# Altium footprint library adafruit.PCBLIB: 643 footprints (part 34 of 41)
Each footprint in its own frame and in the unit in brackets; x right, y up, seen from the top. Pads: shape width x height; smd on the part's side, far side on the other; paste and mask are expansions set on the pad; w line width, h text height; cw(c..) or ccw(c..) is an arc to the next point about the centre after c.
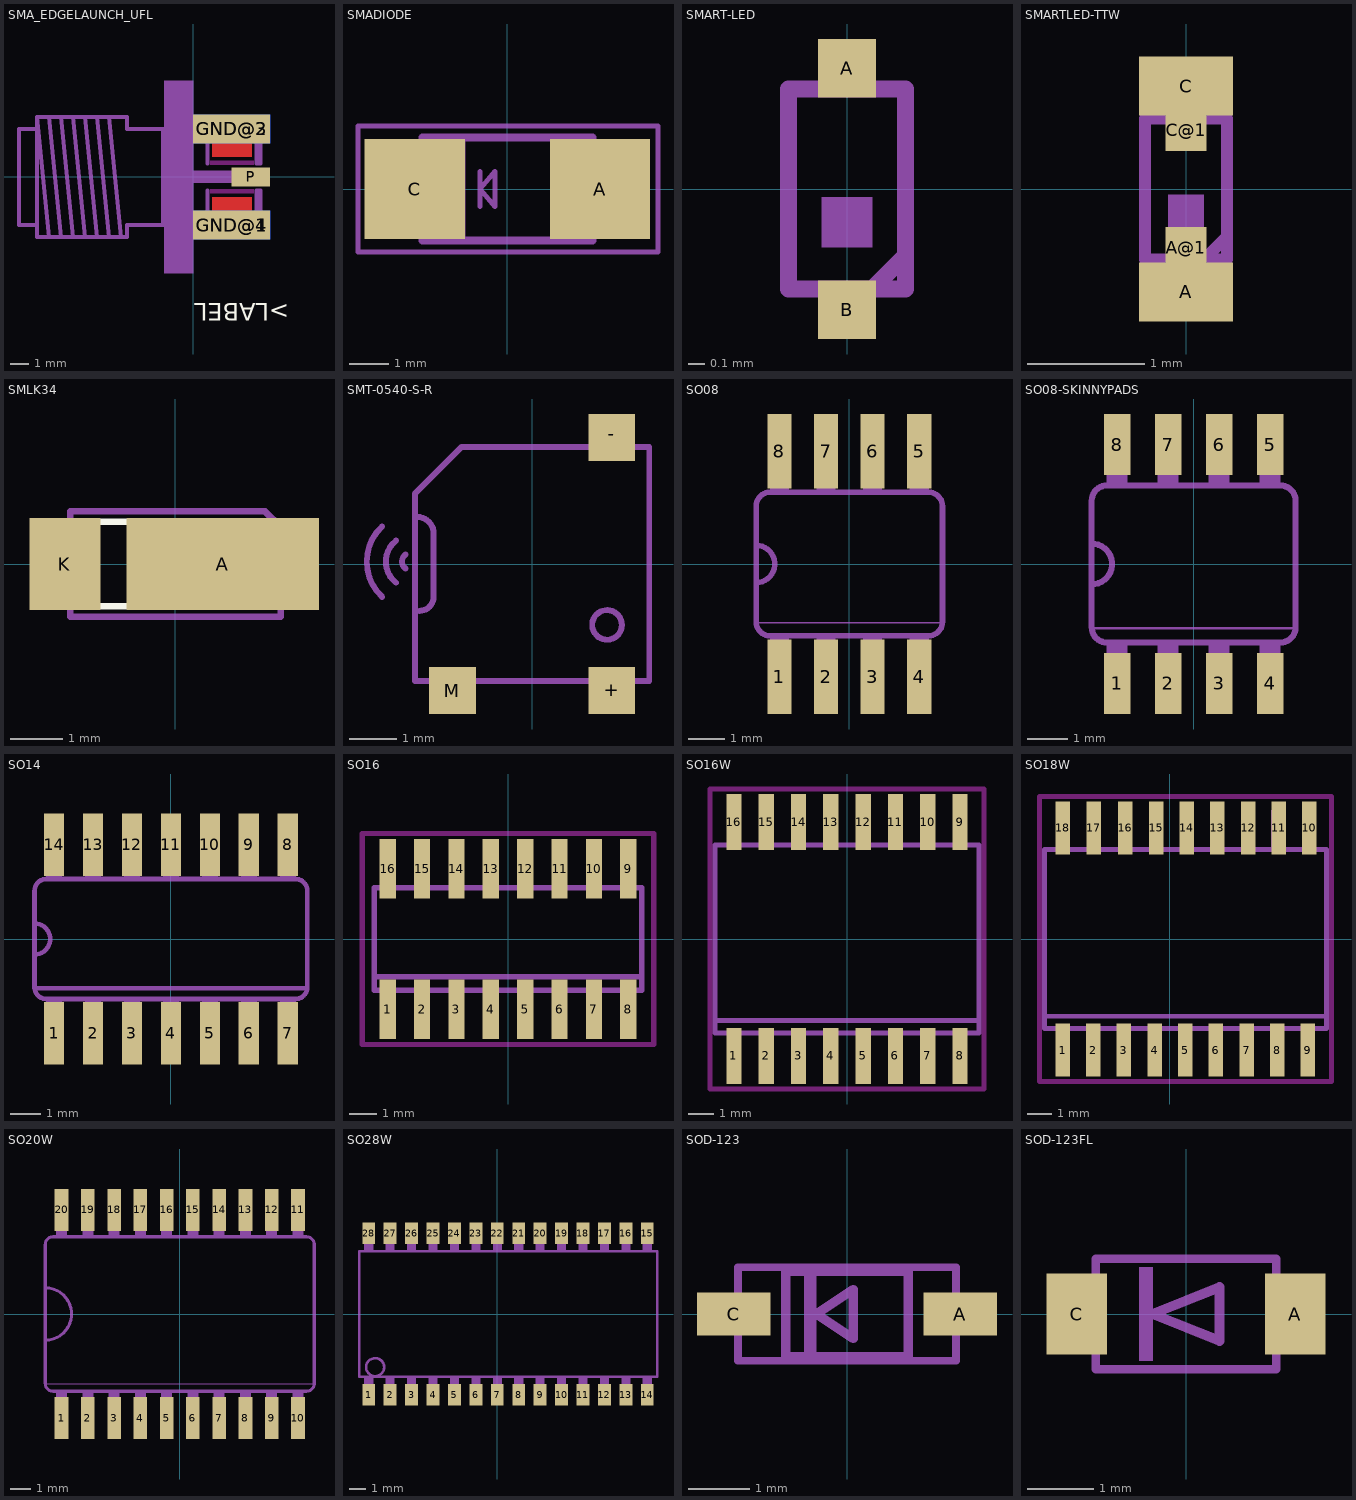
[diagram p33: the footprints below, top view; thin cyan lines are the x and y axes]

## SMA_EDGELAUNCH_UFL [mil]
pads (5):
  rect 160x60 smd paste+0: GND@1(80,-100) GND@2(80,100)
  rect 160x60 smd far side paste+0: GND@3(80,100) GND@4(80,-100)
  rect 80x40 smd paste+0: P(120,0)
Top:
  region: 40,41.94 40,125 122,125 122,41.94
  region: 122,-41.94 122,-125 40,-125 40,-41.94
Top keep-out:
  region: 36,-34 36,-25 126,-25 126,-34
  region: 36,25 36,34 126,34 126,25
Top Overlay:
  text ">LABEL" at 200,-250 h62
Top Paste:
  region: 126,-19 126,19 156,19 156,-19
  region: 39,38.94 39,70.94 123,70.94 123,38.94
  region: 123,-38.94 123,-70.94 39,-70.94 39,-38.94
Top Solder:
  region: 35,36.94 35,72.94 127,72.94 127,36.94
  region: 127,-36.94 127,-72.94 35,-72.94 35,-36.94
tDocu:
  region: 0,-12.5 0,12.5 125,12.5 125,-12.5
  region: -60,120 150,120 150,80 0,80 0,-80 150,-80 150,-120 -60,-120
  region: -60,200 0,200 0,-200 -60,-200
  lines w8: -150,-125 -175,125 ; 29.82,-27.56 29.82,-82.68 132.18,-82.68 ; 29.82,27.56 29.82,82.68 132.18,82.68 ; 136.12,-78.74 136.12,-27.56 ; 136.12,27.56 136.12,78.74 ; -325,-100 -325,-125 -300,-125 ; -325,-100 -362.5,-100 -362.5,100 -325,100 ; -325,-100 -325,100 ; -325,100 -325,125 ; -325,125 -300,125 ; -325,125 -300,-125 ; -300,-125 -275,-125 ; -300,125 -275,125 ; -300,125 -275,-125 ; -275,-125 -250,-125 ; -275,125 -250,125 ; -275,125 -250,-125 ; -250,-125 -225,-125 ; -250,125 -225,125 ; -250,125 -225,-125 ; -225,-125 -200,-125 ; -225,125 -200,125 ; -225,125 -200,-125 ; -200,-125 -175,-125 ; -200,125 -175,125 ; -200,125 -175,-125 ; -175,-125 -137.5,-125 -137.5,-100 -62.5,-100 -62.5,100 -137.5,100 -137.5,125 -175,125 ; 132.18,-82.68 132.18,-27.56 140.06,-27.56 140.06,-82.68 132.18,-82.68 ; 132.18,82.68 132.18,27.56 140.06,27.56 140.06,82.68 132.18,82.68

## SMADIODE [mil]
pads (2):
  rect 100x100 smd: A(92.5,0) C(-92.5,0)
tDocu:
  region: -111.22,-43.31 -111.22,43.31 -85.63,43.31 -85.63,-43.31
  region: 111.22,43.31 111.22,-43.31 85.63,-43.31 85.63,43.31
  region: -68.9,-48.23 -68.9,48.23 -42.32,48.23 -42.32,-48.23
  lines w8: -84.65,-51.18 84.65,-51.18 84.65,51.18 -84.65,51.18 -84.65,-51.18
tPlace:
  lines w5: -149.17,-54.88 -149.17,-45.12 ; -27.5,-17.5 -27.5,17.5 ; 150.24,52.62 150.24,54.88 ; -149.17,-45.12 -149.17,62.99 150.24,62.99 150.24,54.88 ; -149.17,-45.12 -149.17,-62.99 150.24,-62.99 150.24,54.88 ; -27.5,0 -12.5,17.5 -12.5,-17.5 -27.5,0

## SMART-LED [mm]
pads (2):
  rect 0.35x0.35 smd: A(0,0.725) B(0,-0.725)
tDocu:
  region: -0.15,0.6 -0.15,0.85 0.15,0.85 0.15,0.6
  region: -0.15,-0.85 -0.15,-0.6 0.15,-0.6 0.15,-0.85
  lines w0.102: -0.35,-0.6 0.35,-0.6 ; -0.35,0.6 0.35,0.6 ; 0.15,-0.6 0.35,-0.4
tPlace:
  region: -0.15,-0.35 -0.15,-0.05 0.15,-0.05 0.15,-0.35
  lines w0.102: -0.35,-0.6 -0.35,0.6 ; 0.35,-0.6 0.35,0.6

## SMARTLED-TTW [mm]
pads (4):
  rect 0.8x0.5 smd paste+0 mask+0: A(0,-0.875) C(0,0.875)
  rect 0.35x0.35 smd paste+0 mask+0: A@1(0,-0.5) C@1(0,0.5)
Top Paste:
  region: -0.225,0.3 -0.225,0.975 0.225,0.975 0.225,0.3
  region: 0.225,-0.3 0.225,-0.975 -0.225,-0.975 -0.225,-0.3
Top Solder:
  region: -0.175,0.325 -0.175,0.7 0.175,0.7 0.175,0.325
  region: 0.175,-0.325 0.175,-0.7 -0.175,-0.7 -0.175,-0.325
tDocu:
  region: -0.15,0.6 -0.15,0.85 0.15,0.85 0.15,0.6
  region: -0.15,-0.85 -0.15,-0.6 0.15,-0.6 0.15,-0.85
  lines w0.102: -0.35,-0.6 0.35,-0.6 ; -0.35,0.6 0.35,0.6 ; 0.15,-0.6 0.35,-0.4
tPlace:
  region: -0.15,-0.35 -0.15,-0.05 0.15,-0.05 0.15,-0.35
  lines w0.102: -0.35,-0.6 -0.35,0.6 ; 0.35,-0.6 0.35,0.6

## SMLK34 [mil]
pads (2):
  rect 143.7x68.5 smd: A(35.43,0)
  rect 53.15x68.5 smd: K(-82.68,0)
Top Overlay:
  lines w5: -70.87,-31.5 -70.87,31.5 62.99,31.5 70.87,23.62 70.87,-31.5 -70.87,-31.5
tPlace:
  lines w5: -78.74,-39.37 78.74,-39.37 78.74,27.56 66.93,39.37 -78.74,39.37 -78.74,-39.37
  text "A" at 68.11,-85.75 h34
  text "K" at -115.67,-85.75 h34

## SMT-0540-S-R [mm]
pads (3):
  rect 1x1 smd: +(1.7,-2.7) -(1.7,2.7) M(-1.7,-2.7)
tPlace:
  circle w0.127: c1.6,-1.3 r0.316
  lines w0.127: -3.2,-0.7 cw(c-2.5,0.05) -3.2,0.8 ; -2.9,-0.4 cw(c-2.55,0.05) -2.9,0.5 ; -2.7,-0.1 cw(c-2.588,0.05) -2.7,0.2 ; -2.4,-1 ccw(c-2.4,-0.7) -2.1,-0.7 -2.1,0.7 ccw(c-2.45,0.65) -2.5,1 ; -2.5,1 -2.5,-2.5 2.5,-2.5 2.5,2.5 -1.5,2.5 -2.5,1.5 -2.5,1

## SO08 [mil]
pads (8):
  rect 26x80 smd: 1(-75,-121) 2(-25,-121) 3(25,-121) 4(75,-121) 5(75,121) 6(25,121) 7(-25,121) 8(-75,121)
tDocu:
  region: 65,77 65,122 85,122 85,77
  region: -85,-122 -85,-77 -65,-77 -65,-122
  region: -35,-122 -35,-77 -15,-77 -15,-122
  region: 15,-121 15,-76 35,-76 35,-121
  region: 65,-122 65,-77 85,-77 85,-122
  region: 15,77 15,122 35,122 35,77
  region: -35,77 -35,122 -15,122 -15,77
  region: -85,77 -85,122 -65,122 -65,77
tPlace:
  lines w2: -100,-63 100,-63
  lines w6: -100,-20 ccw(c-100,0) -100,20 ; -100,-62 ccw(c-85,-62) -85,-77 85,-77 ccw(c85,-62) 100,-62 100,62 ccw(c85,62) 85,77 -85,77 ccw(c-85,62) -100,62 -100,-62

## SO08-SKINNYPADS [mil]
pads (8):
  rect 26x60 smd: 1(-75,-117.06) 2(-25,-117.06) 3(25,-117.06) 4(75,-117.06) 5(75,117.06) 6(25,117.06) 7(-25,117.06) 8(-75,117.06)
tDocu:
  region: 65,77 65,122 85,122 85,77
  region: -85,-122 -85,-77 -65,-77 -65,-122
  region: -35,-122 -35,-77 -15,-77 -15,-122
  region: 15,-121 15,-76 35,-76 35,-121
  region: 65,-122 65,-77 85,-77 85,-122
  region: 15,77 15,122 35,122 35,77
  region: -35,77 -35,122 -15,122 -15,77
  region: -85,77 -85,122 -65,122 -65,77
tPlace:
  lines w2: -100,-63 100,-63
  lines w6: -100,-20 ccw(c-100,0) -100,20 ; -100,-62 ccw(c-85,-62) -85,-77 85,-77 ccw(c85,-62) 100,-62 100,62 ccw(c85,62) 85,77 -85,77 ccw(c-85,62) -100,62 -100,-62

## SO14 [mil]
pads (14):
  rect 26x80 smd: 1(-150,-121) 2(-100,-121) 3(-50,-121) 4(0,-121) 5(50,-121) 6(100,-121) 7(150,-121) 8(150,121) 9(100,121) 10(50,121) 11(0,121) 12(-50,121) 13(-100,121) 14(-150,121)
tDocu:
  region: -10,77 -10,122 10,122 10,77
  region: -160,-122 -160,-77 -140,-77 -140,-122
  region: -110,-122 -110,-77 -90,-77 -90,-122
  region: -60,-121 -60,-76 -40,-76 -40,-121
  region: -10,-122 -10,-77 10,-77 10,-122
  region: -60,77 -60,122 -40,122 -40,77
  region: -110,77 -110,122 -90,122 -90,77
  region: -160,77 -160,122 -140,122 -140,77
  region: 40,77 40,122 60,122 60,77
  region: 90,77 90,122 110,122 110,77
  region: 140,77 140,122 160,122 160,77
  region: 40,-122 40,-77 60,-77 60,-122
  region: 90,-122 90,-77 110,-77 110,-122
  region: 140,-122 140,-77 160,-77 160,-122
tPlace:
  lines w6: -175,-63 175,-63 ; -175,-20 -175,20 ; -175,-20 -175,-62 ccw(c-160,-62) -160,-77 160,-77 ccw(c160,-62) 175,-62 175,62 ccw(c160,62) 160,77 -160,77 ccw(c-160,62) -175,62 -175,20 ; -175,-20 ccw(c-175,0) -175,20

## SO16 [mil]
pads (16):
  rect 23.62x86.61 smd: 1(-175,-102.36) 2(-125,-102.36) 3(-75,-102.36) 4(-25,-102.36) 5(25,-102.36) 6(75,-102.36) 7(125,-102.36) 8(175,-102.36) 9(175,102.36) 10(125,102.36) 11(75,102.36) 12(25,102.36) 13(-25,102.36) 14(-75,102.36) 15(-125,102.36) 16(-175,102.36)
Top keep-out:
  lines w7.87: -212.4,-153.54 212.4,-153.54 212.4,153.54 -212.4,153.54 -212.4,-153.54
tDocu:
  region: -184.65,-122.05 -184.65,-78.74 -165.35,-78.74 -165.35,-122.05
  region: -134.65,-122.05 -134.65,-78.74 -115.35,-78.74 -115.35,-122.05
  region: -84.65,-122.05 -84.65,-78.74 -65.35,-78.74 -65.35,-122.05
  region: -34.65,-122.05 -34.65,-78.74 -15.35,-78.74 -15.35,-122.05
  region: 65.35,78.74 65.35,122.05 84.65,122.05 84.65,78.74
  region: 15.35,78.74 15.35,122.05 34.65,122.05 34.65,78.74
  region: -34.65,78.74 -34.65,122.05 -15.35,122.05 -15.35,78.74
  region: -84.65,78.74 -84.65,122.05 -65.35,122.05 -65.35,78.74
  region: 15.35,-122.05 15.35,-78.74 34.65,-78.74 34.65,-122.05
  region: 65.35,-122.05 65.35,-78.74 84.65,-78.74 84.65,-122.05
  region: 115.35,-122.05 115.35,-78.74 134.65,-78.74 134.65,-122.05
  region: 165.35,-122.05 165.35,-78.74 184.65,-78.74 184.65,-122.05
  region: 165.35,78.74 165.35,122.05 184.65,122.05 184.65,78.74
  region: 115.35,78.74 115.35,122.05 134.65,122.05 134.65,78.74
  region: -134.65,78.74 -134.65,122.05 -115.35,122.05 -115.35,78.74
  region: -184.65,78.74 -184.65,122.05 -165.35,122.05 -165.35,78.74
  lines w8: -194.49,-55.12 -194.49,-74.8 194.49,-74.8 194.49,-55.12 ; -194.49,-55.12 -194.49,74.8 194.49,74.8 194.49,-55.12 ; -194.49,-55.12 194.49,-55.12

## SO16W [mil]
pads (16):
  rect 23.62x86.61 smd: 1(-175,-181.1) 2(-125,-181.1) 3(-75,-181.1) 4(-25,-181.1) 5(25,-181.1) 6(75,-181.1) 7(125,-181.1) 8(175,-181.1) 9(175,181.1) 10(125,181.1) 11(75,181.1) 12(25,181.1) 13(-25,181.1) 14(-75,181.1) 15(-125,181.1) 16(-175,181.1)
Top keep-out:
  lines w7.87: -212.4,-232.28 212.4,-232.28 212.4,232.28 -212.4,232.28 -212.4,-232.28
tDocu:
  region: -184.65,-209.45 -184.65,-149.61 -165.35,-149.61 -165.35,-209.45
  region: -134.65,-209.45 -134.65,-149.61 -115.35,-149.61 -115.35,-209.45
  region: -84.65,-209.45 -84.65,-149.61 -65.35,-149.61 -65.35,-209.45
  region: -34.65,-209.45 -34.65,-149.61 -15.35,-149.61 -15.35,-209.45
  region: 15.35,-209.45 15.35,-149.61 34.65,-149.61 34.65,-209.45
  region: 65.35,-209.45 65.35,-149.61 84.65,-149.61 84.65,-209.45
  region: 115.35,-209.45 115.35,-149.61 134.65,-149.61 134.65,-209.45
  region: 165.35,-209.45 165.35,-149.61 184.65,-149.61 184.65,-209.45
  region: 165.35,149.61 165.35,209.45 184.65,209.45 184.65,149.61
  region: 115.35,149.61 115.35,209.45 134.65,209.45 134.65,149.61
  region: 65.35,149.61 65.35,209.45 84.65,209.45 84.65,149.61
  region: 15.35,149.61 15.35,209.45 34.65,209.45 34.65,149.61
  region: -34.65,149.61 -34.65,209.45 -15.35,209.45 -15.35,149.61
  region: -84.65,149.61 -84.65,209.45 -65.35,209.45 -65.35,149.61
  region: -134.65,149.61 -134.65,209.45 -115.35,209.45 -115.35,149.61
  region: -184.65,149.61 -184.65,209.45 -165.35,209.45 -165.35,149.61
  lines w8: -204.33,-125.98 -204.33,-145.67 204.33,-145.67 204.33,-125.98 ; -204.33,-125.98 -204.33,145.67 204.33,145.67 204.33,-125.98 ; -204.33,-125.98 204.33,-125.98

## SO18W [mil]
pads (18):
  rect 23.62x86.61 smd: 1(-175,-181.1) 2(-125,-181.1) 3(-75,-181.1) 4(-25,-181.1) 5(25,-181.1) 6(75,-181.1) 7(125,-181.1) 8(175,-181.1) 9(225,-181.1) 10(227.36,181.1) 11(177.36,181.1) 12(127.36,181.1) 13(77.36,181.1) 14(27.36,181.1) 15(-22.64,181.1) 16(-72.64,181.1) 17(-123.82,181.1) 18(-175,181.1)
Top keep-out:
  lines w7.87: -212.4,-232.28 263.58,-232.28 263.58,232.28 -212.4,232.28 -212.4,-232.28
tDocu:
  region: -184.65,-209.45 -184.65,-149.61 -165.35,-149.61 -165.35,-209.45
  region: -134.65,-209.45 -134.65,-149.61 -115.35,-149.61 -115.35,-209.45
  region: -84.65,-209.45 -84.65,-149.61 -65.35,-149.61 -65.35,-209.45
  region: -34.65,-209.45 -34.65,-149.61 -15.35,-149.61 -15.35,-209.45
  region: 15.35,-209.45 15.35,-149.61 34.65,-149.61 34.65,-209.45
  region: 65.35,-209.45 65.35,-149.61 84.65,-149.61 84.65,-209.45
  region: 115.35,-209.45 115.35,-149.61 134.65,-149.61 134.65,-209.45
  region: 165.35,-209.45 165.35,-149.61 184.65,-149.61 184.65,-209.45
  region: 215.35,149.61 215.35,209.45 234.65,209.45 234.65,149.61
  region: 165.35,149.61 165.35,209.45 184.65,209.45 184.65,149.61
  region: 116.53,149.61 116.53,209.45 135.83,209.45 135.83,149.61
  region: 66.53,149.61 66.53,209.45 85.83,209.45 85.83,149.61
  region: 16.53,149.61 16.53,209.45 35.83,209.45 35.83,149.61
  region: -33.47,149.61 -33.47,209.45 -14.17,209.45 -14.17,149.61
  region: -83.47,149.61 -83.47,209.45 -64.17,209.45 -64.17,149.61
  region: -133.47,149.61 -133.47,209.45 -114.17,209.45 -114.17,149.61
  region: -184.65,149.61 -184.65,209.44 -165.35,209.44 -165.35,149.61
  region: 215.35,-209.44 215.35,-149.61 234.65,-149.61 234.65,-209.44
  lines w8: -204.33,-125.98 -204.33,-145.67 255.51,-145.67 255.51,-125.98 ; -204.33,-125.98 -204.33,145.67 255.51,145.67 255.51,-125.98 ; -204.33,-125.98 255.51,-125.98

## SO20W [mil]
pads (20):
  rect 26x80 smd: 1(-225,-198) 2(-175,-198) 3(-125,-198) 4(-75,-198) 5(-25,-198) 6(25,-198) 7(75,-198) 8(125,-198) 9(175,-198) 10(225,-198) 11(225,198) 12(175,198) 13(125,198) 14(75,198) 15(25,198) 16(-25,198) 17(-75,198) 18(-125,198) 19(-175,198) 20(-225,198)
tDocu:
  region: -235,-210 -235,-152 -215,-152 -215,-210
  region: -185,-210 -185,-152 -165,-152 -165,-210
  region: -135,-210 -135,-152 -115,-152 -115,-210
  region: -85,-210 -85,-152 -65,-152 -65,-210
  region: -35,-210 -35,-152 -15,-152 -15,-210
  region: 15,-210 15,-152 35,-152 35,-210
  region: 65,-210 65,-152 85,-152 85,-210
  region: 115,-210 115,-152 135,-152 135,-210
  region: -235,152 -235,210 -215,210 -215,152
  region: -185,152 -185,210 -165,210 -165,152
  region: -135,152 -135,210 -115,210 -115,152
  region: -85,152 -85,210 -65,210 -65,152
  region: -35,152 -35,210 -15,210 -15,152
  region: 15,152 15,210 35,210 35,152
  region: 65,152 65,210 85,210 85,152
  region: 115,152 115,210 135,210 135,152
  region: 165,152 165,210 185,210 185,152
  region: 215,152 215,210 235,210 235,152
  region: 165,-210 165,-152 185,-152 185,-210
  region: 215,-210 215,-152 235,-152 235,-210
tPlace:
  region: -235,-152 -235,-147 -215,-147 -215,-152
  region: -185,-152 -185,-147 -165,-147 -165,-152
  region: -135,-152 -135,-147 -115,-147 -115,-152
  region: -85,-152 -85,-147 -65,-147 -65,-152
  region: -35,-152 -35,-147 -15,-147 -15,-152
  region: 15,-152 15,-147 35,-147 35,-152
  region: 65,-152 65,-147 85,-147 85,-152
  region: 115,-152 115,-147 135,-147 135,-152
  region: -235,147 -235,152 -215,152 -215,147
  region: -185,147 -185,152 -165,152 -165,147
  region: -135,147 -135,152 -115,152 -115,147
  region: -85,147 -85,152 -65,152 -65,147
  region: -35,147 -35,152 -15,152 -15,147
  region: 15,147 15,152 35,152 35,147
  region: 65,147 65,152 85,152 85,147
  region: 115,147 115,152 135,152 135,147
  region: 165,147 165,152 185,152 185,147
  region: 215,147 215,152 235,152 235,147
  region: 165,-152 165,-147 185,-147 185,-152
  region: 215,-152 215,-147 235,-147 235,-152
  lines w2: -255,-133 255,-133
  lines w6: -256,-50 -256,50 ; -256,-50 -256,-132 ccw(c-241,-132) -241,-147 241,-147 ccw(c241,-132) 256,-132 256,132 ccw(c241,132) 241,147 -241,147 ccw(c-241,132) -256,132 -256,50 ; -256,-50 ccw(c-256,0) -256,50

## SO28W [mil]
pads (28):
  rect 30x50 smd: 1(-300,-188.19) 2(-250,-188.19) 3(-200,-188.19) 4(-150,-188.19) 5(-100,-188.19) 6(-50,-188.19) 7(0,-188.19) 8(50,-188.19) 9(100,-188.19) 10(150,-188.19) 11(200,-188.19) 12(250,-188.19) 13(300,-188.19) 14(350,-188.19) 15(350,188.19) 16(300,188.19) 17(250,188.19) 18(200,188.19) 19(150,188.19) 20(100,188.19) 21(50,188.19) 22(0,188.19) 23(-50,188.19) 24(-100,188.19) 25(-150,188.19) 26(-200,188.19) 27(-250,188.19) 28(-300,188.19)
tDocu:
  region: -310,-207.19 -310,-147.19 -290,-147.19 -290,-207.19
  region: -260,-207.19 -260,-147.19 -240,-147.19 -240,-207.19
  region: -210,-207.19 -210,-147.19 -190,-147.19 -190,-207.19
  region: -160,-207.19 -160,-147.19 -140,-147.19 -140,-207.19
  region: -110,-207.19 -110,-147.19 -90,-147.19 -90,-207.19
  region: -60,-207.19 -60,-147.19 -40,-147.19 -40,-207.19
  region: -10,-207.19 -10,-147.19 10,-147.19 10,-207.19
  region: 40,-207.19 40,-147.19 60,-147.19 60,-207.19
  region: 90,-207.19 90,-147.19 110,-147.19 110,-207.19
  region: 140,-207.19 140,-147.19 160,-147.19 160,-207.19
  region: 190,-207.19 190,-147.19 210,-147.19 210,-207.19
  region: 240,-207.19 240,-147.19 260,-147.19 260,-207.19
  region: 290,-207.19 290,-147.19 310,-147.19 310,-207.19
  region: 340,-207.19 340,-147.19 360,-147.19 360,-207.19
  region: 340,147.19 340,207.19 360,207.19 360,147.19
  region: 290,147.19 290,207.19 310,207.19 310,147.19
  region: 240,147.19 240,207.19 260,207.19 260,147.19
  region: 190,147.19 190,207.19 210,207.19 210,147.19
  region: 140,147.19 140,207.19 160,207.19 160,147.19
  region: 90,147.19 90,207.19 110,207.19 110,147.19
  region: 40,147.19 40,207.19 60,207.19 60,147.19
  region: -10,147.19 -10,207.19 10,207.19 10,147.19
  region: -60,147.19 -60,207.19 -40,207.19 -40,147.19
  region: -110,147.19 -110,207.19 -90,207.19 -90,147.19
  region: -160,147.19 -160,207.19 -140,207.19 -140,147.19
  region: -210,147.19 -210,207.19 -190,207.19 -190,147.19
  region: -260,147.19 -260,207.19 -240,207.19 -240,147.19
  region: -310,147.19 -310,207.19 -290,207.19 -290,147.19
tPlace:
  circle w6: c-285,-124 r21
  lines w6: -322,-146.19 373,-146.19 373,146.19 -322,146.19 -322,-146.19

## SOD-123 [mil]
pads (2):
  rect 47.24x27.56 smd: A(72.83,0) C(-72.83,0)
tDocu:
  region: -27.56,-27.56 -27.56,27.56 -19.69,27.56 -19.69,-27.56
  lines w6: -39.37,-27.56 39.37,-27.56 39.37,27.56 -39.37,27.56 -39.37,-27.56 ; -19.69,0 3.94,15.75 3.94,-15.75 -19.69,0
tPlace:
  lines w5: -70,-30 70,-30 70,30 -70,30 -70,-30

## SOD-123FL [mil]
pads (2):
  rect 35.83x48.03 smd: A(64.47,0) C(-64.47,0)
tPlace:
  region: -27.56,-27.56 -27.56,27.56 -19.69,27.56 -19.69,-27.56
  lines w5: -53.15,-32.48 53.15,-32.48 53.15,32.48 -53.15,32.48 -53.15,-32.48
  lines w6: -19.69,0 19.69,15.75 19.69,-15.75 -19.69,0